# EAGLE library part AU6350MGL (library dragino)
Alcor AU6350A41-MGL USB Hub and Card Reader combo.
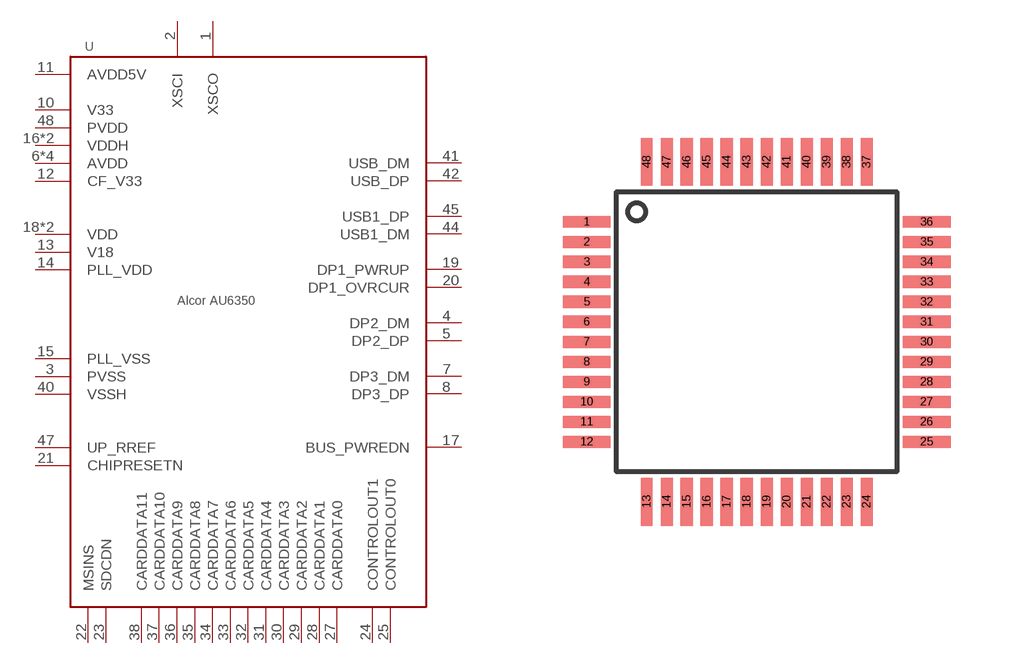
[diagram p29: symbol with the pads of AU6350_LQFP-48; footprint AU6350_LQFP-48]

Designator prefix -

## AU6350MGL  [AU6350_LQFP-48]
1  XSCO  out
2  XSCI  in
3  PVSS  pwr
4  DP2_DM
5  DP2_DP
6  AVDD  pwr
7  DP3_DM
8  DP3_DP
9  AVDD  pwr
10  V33  pwr
11  AVDD5V  pwr
12  CF_V33  pwr
13  V18  pwr
14  PLL_VDD  pwr
15  PLL_VSS  pwr
16  VDDH  pwr
17  BUS_PWREDN  in
18  VDD  pwr
19  DP1_PWRUP  out
20  DP1_OVRCUR  in
21  CHIPRESETN  in
22  MSINS  in
23  SDCDN  in
24  CONTROLOUT1  out
25  CONTROLOUT0  out
26  VDD  pwr
27  CARDDATA0
28  CARDDATA1
29  CARDDATA2
30  CARDDATA3
31  CARDDATA4
32  CARDDATA5
33  CARDDATA6
34  CARDDATA7
35  CARDDATA8
36  CARDDATA9
37  CARDDATA10
38  CARDDATA11
39  VDDH  pwr
40  VSSH  pwr
41  USB_DM
42  USB_DP
43  AVDD  pwr
44  USB1_DM
45  USB1_DP
46  AVDD  pwr
47  UP_RREF  pas
48  PVDD  pwr

## Footprint AU6350_LQFP-48 (pad centres in mm)
smd 1.2 x 0.3: 1 -4.25,2.75; 2 -4.25,2.25; 3 -4.25,1.75; 4 -4.25,1.25; 5 -4.25,0.75; 6 -4.25,0.25; 7 -4.25,-0.25; 8 -4.25,-0.75; 9 -4.25,-1.25; 10 -4.25,-1.75; 11 -4.25,-2.25; 12 -4.25,-2.75; 25 4.25,-2.75; 26 4.25,-2.25; 27 4.25,-1.75; 28 4.25,-1.25; 29 4.25,-0.75; 30 4.25,-0.25; 31 4.25,0.25; 32 4.25,0.75; 33 4.25,1.25; 34 4.25,1.75; 35 4.25,2.25; 36 4.25,2.75
smd 0.3 x 1.2: 13 -2.75,-4.25; 14 -2.25,-4.25; 15 -1.75,-4.25; 16 -1.25,-4.25; 17 -0.75,-4.25; 18 -0.25,-4.25; 19 0.25,-4.25; 20 0.75,-4.25; 21 1.25,-4.25; 22 1.75,-4.25; 23 2.25,-4.25; 24 2.75,-4.25; 37 2.75,4.25; 38 2.25,4.25; 39 1.75,4.25; 40 1.25,4.25; 41 0.75,4.25; 42 0.25,4.25; 43 -0.25,4.25; 44 -0.75,4.25; 45 -1.25,4.25; 46 -1.75,4.25; 47 -2.25,4.25; 48 -2.75,4.25